# EAGLE library part LINEAR,VGA:VCA82_(LIN/LOG) (library QuantumOptics)
VCA82x, Variable Gain Amp, T.I., various dB/V and V/V. e.g. VCA822, VCA824. Example http://focus.ti.com/docs/prod/folders/print/vca822.html
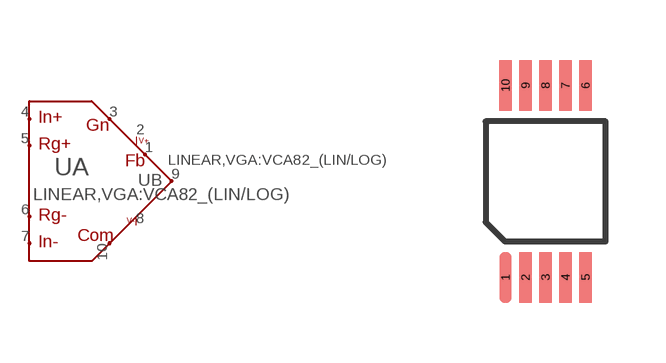
[diagram p101: symbol with the pads of MSOP10; footprint MSOP10]

Designator prefix U; gates A=LINEAR,VGA:VCA82_(LIN/LOG) B=PWR+-2

## LINEAR,VGA:VCA82_(LIN/LOG)-MSOP10  [MSOP10]
1  A:FB
2  B:V+
3  A:G
4  A:VIN+
5  A:RG+
6  A:RG-
7  A:VIN-
8  B:V-
9  A:OUT
10  A:COM

## Footprint MSOP10 (pad centres in mm)
MSOP-10, JEDEC MO-187AB. Sameas Maxim's µsop-10 and TI's VSSOP DGA (S-PDSO-G10).
smd 0.305 x 1.27: 1 -1,-2.4; 2 -0.5,-2.4; 3 0,-2.4; 4 0.5,-2.4; 5 1,-2.4; 6 1,2.4; 7 0.5,2.4; 8 0,2.4; 9 -0.5,2.4; 10 -1,2.4